# Altium schematic symbol library Ahristi_Library.SchLib: 438 symbols (part 2 of 5)
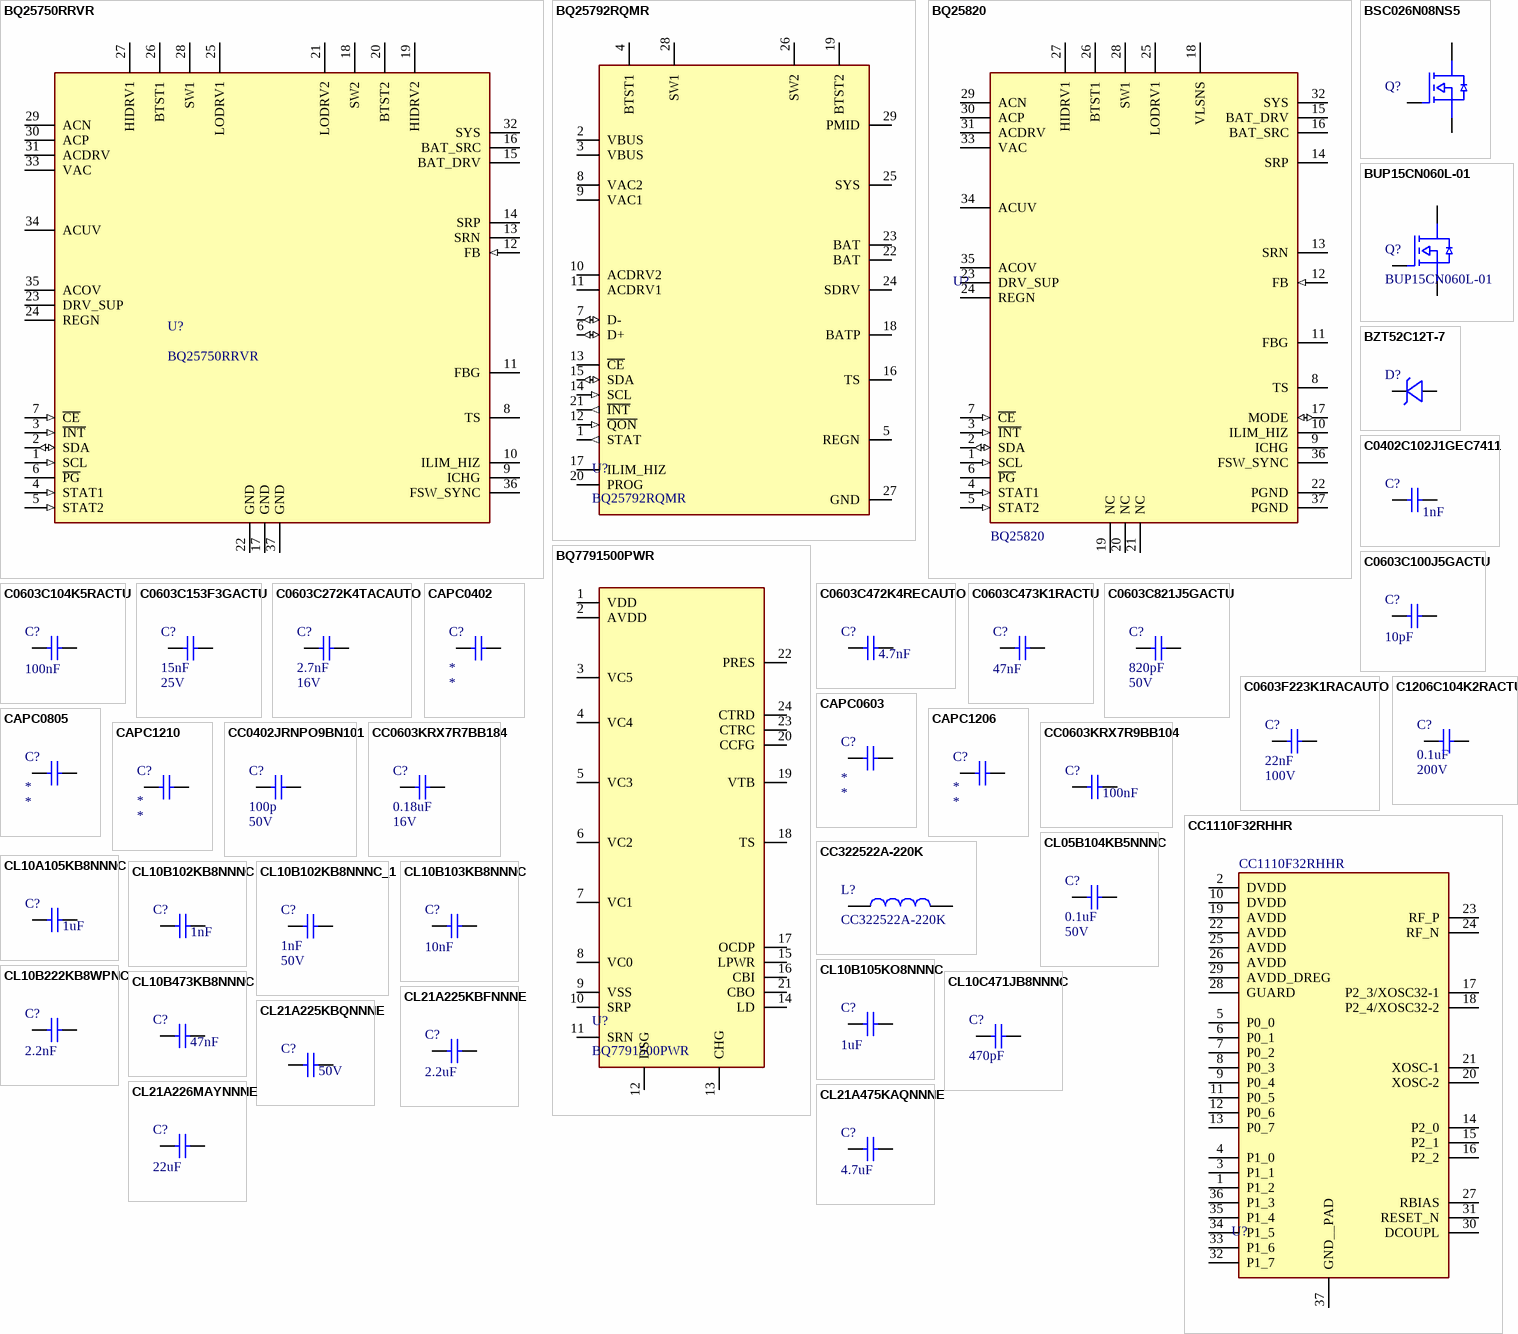
[diagram p13: symbols BQ25750RRVR to CL21A475KAQNNNE]

## C0603C272K4TACAUTO
designator C?  Voltage Rating: 16V  Capacitance: 2.7nF  (hidden comment: C0603C272K4TACAUTO)
2.7nF ±10% 16V Ceramic Capacitor X8G 0603 (1608 Metric); Part Number: C0603C272K4TACAUTO; Tolerance: 10%; Distributor Part number: 399-C0603C272K4TACAUTOTR-ND; Case Code: 0603; Distributor: Digikey; Dielectric: X8G
footprint CAPC0603X040 (Chip Capacitor, 2-Leads, Body 1.60x0.80mm, IPC Medium Density)
footprint CAPC0603X060 (Chip Capacitor, 2-Leads, Body 1.60x0.80mm, IPC Medium Density)
footprint CAPC0603X070 (Chip Capacitor, 2-Leads, Body 1.60x0.80mm, IPC Medium Density)
footprint CAPC0603X080 (Chip Capacitor, 2-Leads, Body 1.60x0.80mm, IPC Medium Density)
footprint CAPC0603X090 (Chip Capacitor, 2-Leads, Body 1.60x0.80mm, IPC Medium Density)
pins: 1, 2

## C0603C472K4RECAUTO
designator C?  Capacitance: 4.7nF  (hidden comment: C0603C472K4RECAUTO)
4.7nF ±10% 16V Ceramic Capacitor X7R 0603 (1608 Metric); Part Number: C0603C472K4RECAUTO; Tolerance: 10%; Distributor Part number: 399-17879-1-ND; Case Code: 0603; Distributor: Digikey; Dielectric: X7R; Voltage Rating: 16V
footprint CAPC0603X040 (Chip Capacitor, 2-Leads, Body 1.60x0.80mm, IPC Medium Density)
footprint CAPC0603X060 (Chip Capacitor, 2-Leads, Body 1.60x0.80mm, IPC Medium Density)
footprint CAPC0603X070 (Chip Capacitor, 2-Leads, Body 1.60x0.80mm, IPC Medium Density)
footprint CAPC0603X080 (Chip Capacitor, 2-Leads, Body 1.60x0.80mm, IPC Medium Density)
footprint CAPC0603X090 (Chip Capacitor, 2-Leads, Body 1.60x0.80mm, IPC Medium Density)
pins: 1, 2

## C0603C473K1RACTU
designator C?  Capacitance: 47nF  (hidden comment: C0603C473K1RACTU)
0.047 µF ±10% 100V Ceramic Capacitor X7R 0603 (1608 Metric); Part Number: C0603C473K1RACTU; Distributor Part Number: 399-C0603C473K1RACTUCT-ND; Tolerance: 10%; Case Code: 0603; Distributor: Digikey; Voltage Rating: 100V
footprint CAPC0603X040 (Chip Capacitor, 2-Leads, Body 1.60x0.80mm, IPC Medium Density)
pins: 1, 2

## C0603C821J5GACTU
designator C?  Voltage Rating: 50V  Capacitance: 820pF  (hidden comment: C0603C821J5GACTU)
820 pF ±5% 50V Ceramic Capacitor C0G, NP0 0603 (1608 Metric); Part Number: C0603C821J5GACTU; Tolerance: 5%; Distributor Part number: 399-C0603C821J5GACTUCT-ND; Case Code: 0603; Distributor: Digikey; Dielectric: C0G
footprint CAPC0603X040 (Chip Capacitor, 2-Leads, Body 1.60x0.80mm, IPC Medium Density)
footprint CAPC0603X060 (Chip Capacitor, 2-Leads, Body 1.60x0.80mm, IPC Medium Density)
footprint CAPC0603X070 (Chip Capacitor, 2-Leads, Body 1.60x0.80mm, IPC Medium Density)
footprint CAPC0603X080 (Chip Capacitor, 2-Leads, Body 1.60x0.80mm, IPC Medium Density)
footprint CAPC0603X090 (Chip Capacitor, 2-Leads, Body 1.60x0.80mm, IPC Medium Density)
pins: 1, 2

## C0603F223K1RACAUTO
designator C?  Voltage Rating: 100V  Capacitance: 22nF  (hidden comment: C0603F223K1RACAUTO)
0.022 µF ±10% 100V Ceramic Capacitor X7R 0603 (1608 Metric); Part Number: C0603F223K1RACAUTO; Tolerance: 10%; Distributor Part number: 399-C0603F223K1RACAUTOCT-ND; Case Code: 0603; Distributor: Digikey; Dielectric: X7R
footprint CAPC0603X040 (Chip Capacitor, 2-Leads, Body 1.60x0.80mm, IPC Medium Density)
footprint CAPC0603X060 (Chip Capacitor, 2-Leads, Body 1.60x0.80mm, IPC Medium Density)
footprint CAPC0603X070 (Chip Capacitor, 2-Leads, Body 1.60x0.80mm, IPC Medium Density)
footprint CAPC0603X080 (Chip Capacitor, 2-Leads, Body 1.60x0.80mm, IPC Medium Density)
footprint CAPC0603X090 (Chip Capacitor, 2-Leads, Body 1.60x0.80mm, IPC Medium Density)
pins: 1, 2

## C1206C104K2RACTU
designator C?  Voltage Rating: 200V  Capacitance: 0.1uF  (hidden comment: C1206C104K2RACTU)
0.1 µF ±10% 200V Ceramic Capacitor X7R 1206 (3216 Metric); Part Number: C1206C104K2RACTU; Distributor Part Number: 399-C1206C104K2RACTUCT-ND; Tolerance: 10%; Case Code: 1206; Distributor: Digikey
footprint CAPC1206X060 (Chip Capacitor, 2-Leads, Body 3.2x1.60mm, IPC Medium Density)
footprint CAPC1206X085
footprint CAPC1206X090 (Chip Capacitor, 2-Leads, Body 3.2x1.60mm, IPC Medium Density)
footprint CAPC1206X115
footprint CAPC1206X120
footprint CAPC1206X145 (Chip Capacitor, 2-Leads, Body 3.2x1.60mm, IPC Medium Density)
footprint CAPC1206X150 (Chip Capacitor, 2-Leads, Body 3.2x1.60mm, IPC Medium Density)
footprint CAPC1206X170
pins: 1, 2

## CAPC0402
designator C?
Part Number: *; Tolerance: *; Distributor Part Number: *; Case Code: 0402; Distributor: *; Manufacturer: *; Dielectric: *; Voltage Rating: *; Capacitance: *
footprint CAPC0402X020 (Chip Capacitor, 2-Leads, Body 1.00x0.50mm, IPC Medium Density)
footprint CAPC0402X045
pins: 1, 2

## CAPC0603
designator C?
Part Number: *; Tolerance: *; Distributor Part number: *; Case Code: 0603; Distributor: *; Voltage Rating: *; Capacitance: *
footprint CAPC0603X040 (Chip Capacitor, 2-Leads, Body 1.60x0.80mm, IPC Medium Density)
footprint CAPC0603X060 (Chip Capacitor, 2-Leads, Body 1.60x0.80mm, IPC Medium Density)
footprint CAPC0603X070 (Chip Capacitor, 2-Leads, Body 1.60x0.80mm, IPC Medium Density)
footprint CAPC0603X080 (Chip Capacitor, 2-Leads, Body 1.60x0.80mm, IPC Medium Density)
footprint CAPC0603X090 (Chip Capacitor, 2-Leads, Body 1.60x0.80mm, IPC Medium Density)
pins: 1, 2

## CAPC0805
designator C?
Part Number: *; Distributor Part Number: *; Tolerance: *; Case Code: 0805; Distributor: *; Voltage Rating: *; Capacitance: *
footprint CAPC0805X060 (Chip Capacitor, 2-Leads, Body 1.00x0.50mm, IPC Medium Density)
footprint CAPC0805X085 (Chip Resistor, 2-Leads, Body 2.00x1.25mm, IPC Medium Density)
footprint CAPC0805X125 (Chip Resistor, 2-Leads, Body 2.00x1.25mm, IPC Medium Density)
footprint CAPC0805X135 (Chip Capacitor, 2-Leads, Body 1.00x0.50mm, IPC Medium Density)
pins: 1, 2

## CAPC1206
designator C?
Part Number: *; Distributor Part Number: *; Tolerance: *; Case Code: 1206; Distributor: *; Voltage Rating: *; Capacitance: *
footprint CAPC1206X060 (Chip Capacitor, 2-Leads, Body 3.2x1.60mm, IPC Medium Density)
footprint CAPC1206X085
footprint CAPC1206X090 (Chip Capacitor, 2-Leads, Body 3.2x1.60mm, IPC Medium Density)
footprint CAPC1206X115
footprint CAPC1206X120
footprint CAPC1206X145 (Chip Capacitor, 2-Leads, Body 3.2x1.60mm, IPC Medium Density)
footprint CAPC1206X150 (Chip Capacitor, 2-Leads, Body 3.2x1.60mm, IPC Medium Density)
footprint CAPC1206X170
pins: 1, 2

## CAPC1210
designator C?
Part Number: *; Distributor Part Number: *; Tolerance: *; Case Code: 1210; Distributor: *; Voltage Rating: *; Capacitance: *
footprint CAPC1210X090 (1210 Ceramic Capacitor)
footprint CAPC1210X115 (1210 Ceramic Capacitor)
footprint CAPC1210X140 (1210 Ceramic Capacitor)
footprint CAPC1210X170 (1210 Ceramic Capacitor)
footprint CAPC1210X190 (1210 Ceramic Capacitor)
pins: 1, 2

## CC0402JRNPO9BN101
designator C?  Voltage Rating: 50V  Capacitance: 100p  (hidden comment: CC0402JRNPO9BN101)
100 pF ±5% 50V Ceramic Capacitor C0G, NP0 0402 (1005 Metric); Part Number: CC0402JRNPO9BN101; Tolerance: 5%; Distributor Part Number: 311-1024-1-ND; Case Code: 0402; Distributor: Digikey; Manufacturer: *; Dielectric: C0G
footprint CAPC0402X020 (Chip Capacitor, 2-Leads, Body 1.00x0.50mm, IPC Medium Density)
footprint CAPC0402X045
pins: 1, 2

## CC0603KRX7R7BB184
designator C?  Voltage Rating: 16V  Capacitance: 0.18uF  (hidden comment: CC0603KRX7R7BB184)
0.18 µF ±10% 16V Ceramic Capacitor X7R 0603 (1608 Metric); Part Number: CC0603KRX7R7BB184; Tolerance: 10%; Distributor Part number: 311-4066-1-ND; Case Code: 0603; Distributor: Digikey; Dielectric: X7R
footprint CAPC0603X040 (Chip Capacitor, 2-Leads, Body 1.60x0.80mm, IPC Medium Density)
footprint CAPC0603X060 (Chip Capacitor, 2-Leads, Body 1.60x0.80mm, IPC Medium Density)
footprint CAPC0603X070 (Chip Capacitor, 2-Leads, Body 1.60x0.80mm, IPC Medium Density)
footprint CAPC0603X080 (Chip Capacitor, 2-Leads, Body 1.60x0.80mm, IPC Medium Density)
footprint CAPC0603X090 (Chip Capacitor, 2-Leads, Body 1.60x0.80mm, IPC Medium Density)
pins: 1, 2

## CC0603KRX7R9BB104
designator C?  Capacitance: 100nF  (hidden comment: CC0603KRX7R9BB104)
100nF 50V X7R ±10% 0603 Multilayer Ceramic Capacitors MLCC - SMD/SMT ROHS; Part Number: CC0603KRX7R9BB104; Tolerance: 10%; Distributor Part number: C14663; Case Code: 0603; Distributor: JLCPCB; Dielectric: X7R; Voltage Rating: 50V
footprint CAPC0603X040 (Chip Capacitor, 2-Leads, Body 1.60x0.80mm, IPC Medium Density)
footprint CAPC0603X060 (Chip Capacitor, 2-Leads, Body 1.60x0.80mm, IPC Medium Density)
footprint CAPC0603X070 (Chip Capacitor, 2-Leads, Body 1.60x0.80mm, IPC Medium Density)
footprint CAPC0603X080 (Chip Capacitor, 2-Leads, Body 1.60x0.80mm, IPC Medium Density)
footprint CAPC0603X090 (Chip Capacitor, 2-Leads, Body 1.60x0.80mm, IPC Medium Density)
pins: 1, 2

## CC1110F32RHHR
designator U?  Part Number: CC1110F32RHHR
IC RF TXRx + MCU General ISM < 1GHz 36-VFQFN Exposed Pad; Modulation: 2FSK, ASK, GFSK, MSK, OOK; Frequency: 300MHz ~ 348MHz, 391MHz ~ 464MHz, 782MHz ~ 928MHz; Data Rate (Max): 500kBaud; Power Output: 10dBm; Sensitivity: -112dBm; Memory Size: 32kB Flash, 4kB SRAM; Serial Interface: I2S, USART; GPIO: 21; Supply Voltage: 2V ~3.6V; Current - Receiving: 16.2mA ~ 21.5mA; Current - Transmitting: 18mA ~ 36.2mA; Operating Temperature: -40C ~ 85C; ComponentLink1Description: Datasheet; ComponentLink1URL: https://www.ti.com/lit/ds/symlink/cc1110-cc1111.pdf?ts=1755677728805&ref_url=https%253A%252F%252Fwww.ti.com%252Fproduct%252FCC1110-CC1111
footprint CC1110F32RHHR (IC RF TXRX+MCU ISM<1GHZ 36VQFN)
pins: 1 P1_2, 2 DVDD, 3 P1_1, 4 P1_0, 5 P0_0, 6 P0_1, 7 P0_2, 8 P0_3, 9 P0_4, 10 DVDD, 11 P0_5, 12 P0_6, 13 P0_7, 14 P2_0, 15 P2_1, 16 P2_2, 17 P2_3/XOSC32-1, 18 P2_4/XOSC32-2, 19 AVDD, 20 XOSC-2, 21 XOSC-1, 22 AVDD, 23 RF_P, 24 RF_N, 25 AVDD, 26 AVDD, 27 RBIAS, 28 GUARD, 29 AVDD_DREG, 30 DCOUPL, 31 RESET_N, 32 P1_7, 33 P1_6, 34 P1_5, 35 P1_4, 36 P1_3, 37 GND__PAD

## CC322522A-220K
designator L?
Inductor 22uH 10% 370mA 2.2Ohm 20MHz 2.5mmx2.2mmx3.2mm; Saturation Current: 300mA; Maximum DC Resistance: 2Ohm; Part Number: CC322522A-220K; Inductance: 22uH; Tolerance: 10%; Maximum DC Current: 370mA; Operating Temperature: -40C ~ 150C
footprint CC322522A-220K (3.2mm x 2.5mm Inductor)
pins: 1, 2

## CL05B104KB5NNNC
designator C?  Voltage Rating: 50V  Capacitance: 0.1uF  (hidden comment: CL05B104KB5NNNC)
0.1 µF ±10% 50V Ceramic Capacitor X7R 0402 (1005 Metric); Part Number: CL05B104KB5NNNC; Tolerance: 10%; Distributor Part Number: 1276-CL05B104KB5NNNCCT-ND; Case Code: 0402; Distributor: Digikey
footprint CAPC0402X020 (Chip Capacitor, 2-Leads, Body 1.00x0.50mm, IPC Medium Density)
footprint CAPC0402X045
simulation model C_Capacitor_Default (Model Description)
pins: 1, 2

## CL10A105KB8NNNC
designator C?  Capacitance: 1uF  (hidden comment: CL10A105KB8NNNC)
1uF 50V X5R ±10% 0603 Multilayer Ceramic Capacitors MLCC - SMD/SMT ROHS; Part Number: CL10A105KB8NNNC; Tolerance: 10%; Distributor Part number: C15849; Case Code: 0603; Distributor: JLCPCB; Dielectric: X5R; Voltage Rating: 50V
footprint CAPC0603X040 (Chip Capacitor, 2-Leads, Body 1.60x0.80mm, IPC Medium Density)
footprint CAPC0603X060 (Chip Capacitor, 2-Leads, Body 1.60x0.80mm, IPC Medium Density)
footprint CAPC0603X070 (Chip Capacitor, 2-Leads, Body 1.60x0.80mm, IPC Medium Density)
footprint CAPC0603X080 (Chip Capacitor, 2-Leads, Body 1.60x0.80mm, IPC Medium Density)
footprint CAPC0603X090 (Chip Capacitor, 2-Leads, Body 1.60x0.80mm, IPC Medium Density)
pins: 1, 2

## CL10B102KB8NNNC
designator C?  Capacitance: 1nF  (hidden comment: CL10B102KB8NNNC)
1nF 50V X7R ±10% 0603 Multilayer Ceramic Capacitors MLCC - SMD/SMT ROHS; Part Number: CL10B102KB8NNNC; Tolerance: 10%; Distributor Part number: C1588; Case Code: 0603; Distributor: JLCPCB; Dielectric: X7R; Voltage Rating: 50V
footprint CAPC0603X040 (Chip Capacitor, 2-Leads, Body 1.60x0.80mm, IPC Medium Density)
footprint CAPC0603X060 (Chip Capacitor, 2-Leads, Body 1.60x0.80mm, IPC Medium Density)
footprint CAPC0603X070 (Chip Capacitor, 2-Leads, Body 1.60x0.80mm, IPC Medium Density)
footprint CAPC0603X080 (Chip Capacitor, 2-Leads, Body 1.60x0.80mm, IPC Medium Density)
footprint CAPC0603X090 (Chip Capacitor, 2-Leads, Body 1.60x0.80mm, IPC Medium Density)
pins: 1, 2

## CL10B102KB8NNNC_1
designator C?, comment Voltage Rating: 50V  Capacitance: 1nF  (hidden comment: CL10B102KB8NNNC)
1nF 50V X7R ±10% 0603 Multilayer Ceramic Capacitors MLCC - SMD/SMT ROHS; Part Number: CL10B102KB8NNNC; Tolerance: 10%; Distributor Part number: 1276-1018-1-ND; Case Code: 0603; Distributor: Digikey; Dielectric: X7R
footprint CAPC0603X040 (Chip Capacitor, 2-Leads, Body 1.60x0.80mm, IPC Medium Density)
footprint CAPC0603X060 (Chip Capacitor, 2-Leads, Body 1.60x0.80mm, IPC Medium Density)
footprint CAPC0603X070 (Chip Capacitor, 2-Leads, Body 1.60x0.80mm, IPC Medium Density)
footprint CAPC0603X080 (Chip Capacitor, 2-Leads, Body 1.60x0.80mm, IPC Medium Density)
footprint CAPC0603X090 (Chip Capacitor, 2-Leads, Body 1.60x0.80mm, IPC Medium Density)
pins: 1, 2

## CL10B103KB8NNNC
designator C?  Capacitance: 10nF  (hidden comment: CL10B103KB8NNNC)
10nF ±10% 50V Ceramic Capacitor X7R 0603 (1608 Metric); Part Number: CL10B103KB8NNNC; Distributor Part Number: 1276-1009-1-ND; Tolerance: 10%; Case Code: 0603; Distributor: Digikey; Voltage Rating: 50V
footprint CAPC0603X060 (Chip Capacitor, 2-Leads, Body 1.60x0.80mm, IPC Medium Density)
simulation model C_Capacitor_Default (Model Description)
pins: 1, 2

## CL10B105KO8NNNC
designator C?  Capacitance: 1uF  (hidden comment: CL10B105KO8NNNC)
1 µF ±10% 16V Ceramic Capacitor X7R 0603 (1608 Metric); Part Number: CL10B105KO8NNNC; Distributor Part Number: 1276-1019-1-ND; Tolerance: 10%; Case Code: 0603; Distributor: Digikey; Voltage Rating: 16V
footprint CAPC0603X060 (Chip Capacitor, 2-Leads, Body 1.60x0.80mm, IPC Medium Density)
pins: 1, 2

## CL10B222KB8WPNC
designator C?  Capacitance: 2.2nF  (hidden comment: CL10B222KB8WPNC)
2.2nF ±10% 50V Ceramic Capacitor X7R 0603 (1608 Metric); Part Number: CL10B222KB8WPNC; Distributor Part Number: 1276-6530-1-ND; Tolerance: 10%; Case Code: 0805; Distributor: Digikey; Voltage Rating: 50V
footprint CAPC0603X060 (Chip Capacitor, 2-Leads, Body 1.60x0.80mm, IPC Medium Density)
simulation model C_Capacitor_Default (Model Description)
pins: 1, 2

## CL10B473KB8NNNC
designator C?  Capacitance: 47nF  (hidden comment: CL10B473KB8NNNC)
47nF 50V X7R ±10% 0603 Multilayer Ceramic Capacitors MLCC - SMD/SMT ROHS; Part Number: CL10B473KB8NNNC; Tolerance: 10%; Distributor Part number: C1622; Case Code: 0603; Distributor: JLCPCB; Dielectric: X7R; Voltage Rating: 50V
footprint CAPC0603X040 (Chip Capacitor, 2-Leads, Body 1.60x0.80mm, IPC Medium Density)
footprint CAPC0603X060 (Chip Capacitor, 2-Leads, Body 1.60x0.80mm, IPC Medium Density)
footprint CAPC0603X070 (Chip Capacitor, 2-Leads, Body 1.60x0.80mm, IPC Medium Density)
footprint CAPC0603X080 (Chip Capacitor, 2-Leads, Body 1.60x0.80mm, IPC Medium Density)
footprint CAPC0603X090 (Chip Capacitor, 2-Leads, Body 1.60x0.80mm, IPC Medium Density)
pins: 1, 2

## CL10C471JB8NNNC
designator C?  Capacitance: 470pF  (hidden comment: CL10C471JB8NNNC)
470 pF ±5% 50V Ceramic Capacitor C0G, NP0 0603 (1608 Metric); Part Number: CL10C471JB8NNNC; Tolerance: 5%; Distributor Part number: 1276-1168-1-ND; Case Code: 0603; Distributor: Digikey; Dielectric: C0G; Voltage Rating: 50V
footprint CAPC0603X040 (Chip Capacitor, 2-Leads, Body 1.60x0.80mm, IPC Medium Density)
footprint CAPC0603X060 (Chip Capacitor, 2-Leads, Body 1.60x0.80mm, IPC Medium Density)
footprint CAPC0603X070 (Chip Capacitor, 2-Leads, Body 1.60x0.80mm, IPC Medium Density)
footprint CAPC0603X080 (Chip Capacitor, 2-Leads, Body 1.60x0.80mm, IPC Medium Density)
footprint CAPC0603X090 (Chip Capacitor, 2-Leads, Body 1.60x0.80mm, IPC Medium Density)
pins: 1, 2

## CL21A225KBFNNNE
designator C?  Capacitance: 2.2uF  (hidden comment: CL21A225KBFNNNE)
2.2uF ±10% 25V Ceramic Capacitor X7R 0805 (2012 Metric); Part Number: CL21A225KBFNNNE; Distributor Part Number: 1276-6702-1-ND; Tolerance: 10%; Case Code: 0805; Distributor: Digikey; Voltage Rating: 25V
footprint CAPC0805X060 (Chip Capacitor, 2-Leads, Body 1.00x0.50mm, IPC Medium Density)
footprint CAPC0805X085 (Chip Resistor, 2-Leads, Body 2.00x1.25mm, IPC Medium Density)
footprint CAPC0805X125 (Chip Resistor, 2-Leads, Body 2.00x1.25mm, IPC Medium Density)
footprint CAPC0805X135 (Chip Capacitor, 2-Leads, Body 1.00x0.50mm, IPC Medium Density)
simulation model C_Capacitor_Default (Model Description)
pins: 1, 2

## CL21A225KBQNNNE
designator C?  Voltage Rating: 50V  (hidden comment: CL21A225KBQNNNE)
2.2uF 50V X5R ±10% 0805 Multilayer Ceramic Capacitors MLCC - SMD/SMT ROHS; Part Number: CL21A225KBQNNNE; Distributor Part Number: C377773; Tolerance: 10%; Case Code: 0805; Distributor: JLCPCB; Capacitance: 2.2uF; Dielectric: X5R
footprint CAPC0805X060 (Chip Capacitor, 2-Leads, Body 1.00x0.50mm, IPC Medium Density)
footprint CAPC0805X085 (Chip Resistor, 2-Leads, Body 2.00x1.25mm, IPC Medium Density)
footprint CAPC0805X125 (Chip Resistor, 2-Leads, Body 2.00x1.25mm, IPC Medium Density)
footprint CAPC0805X135 (Chip Capacitor, 2-Leads, Body 1.00x0.50mm, IPC Medium Density)
pins: 1, 2

## CL21A226MAYNNNE
designator C?  Capacitance: 22uF  (hidden comment: CL21A226MAYNNNE)
22 µF ±20% 25V Ceramic Capacitor X5R 0805 (2012 Metric); Tolerance: 10%; Part Number: CL21A226MAYNNNE; Distributor Part Number: 1276-CL21A226MAYNNNECT-ND; Case Code: 0805; Distributor: Digikey; Voltage Rating: 25V
footprint CAPC0805X060 (Chip Capacitor, 2-Leads, Body 1.00x0.50mm, IPC Medium Density)
footprint CAPC0805X085 (Chip Resistor, 2-Leads, Body 2.00x1.25mm, IPC Medium Density)
footprint CAPC0805X125 (Chip Resistor, 2-Leads, Body 2.00x1.25mm, IPC Medium Density)
footprint CAPC0805X135 (Chip Capacitor, 2-Leads, Body 1.00x0.50mm, IPC Medium Density)
pins: 1, 2

## CL21A475KAQNNNE
designator C?  Capacitance: 4.7uF  (hidden comment: CL21A475KAQNNNE)
4.7 µF ±10% 25V Ceramic Capacitor X5R 0805 (2012 Metric); Part Number: CL21A475KAQNNNE; Distributor Part Number: 1276-1244-1-ND; Tolerance: 10%; Case Code: 0805; Distributor: Digikey; Voltage Rating: 25V
footprint CAPC0805X060 (Chip Capacitor, 2-Leads, Body 1.00x0.50mm, IPC Medium Density)
footprint CAPC0805X085 (Chip Resistor, 2-Leads, Body 2.00x1.25mm, IPC Medium Density)
footprint CAPC0805X125 (Chip Resistor, 2-Leads, Body 2.00x1.25mm, IPC Medium Density)
footprint CAPC0805X135 (Chip Capacitor, 2-Leads, Body 1.00x0.50mm, IPC Medium Density)
simulation model C_Capacitor_Default (Model Description)
pins: 1, 2

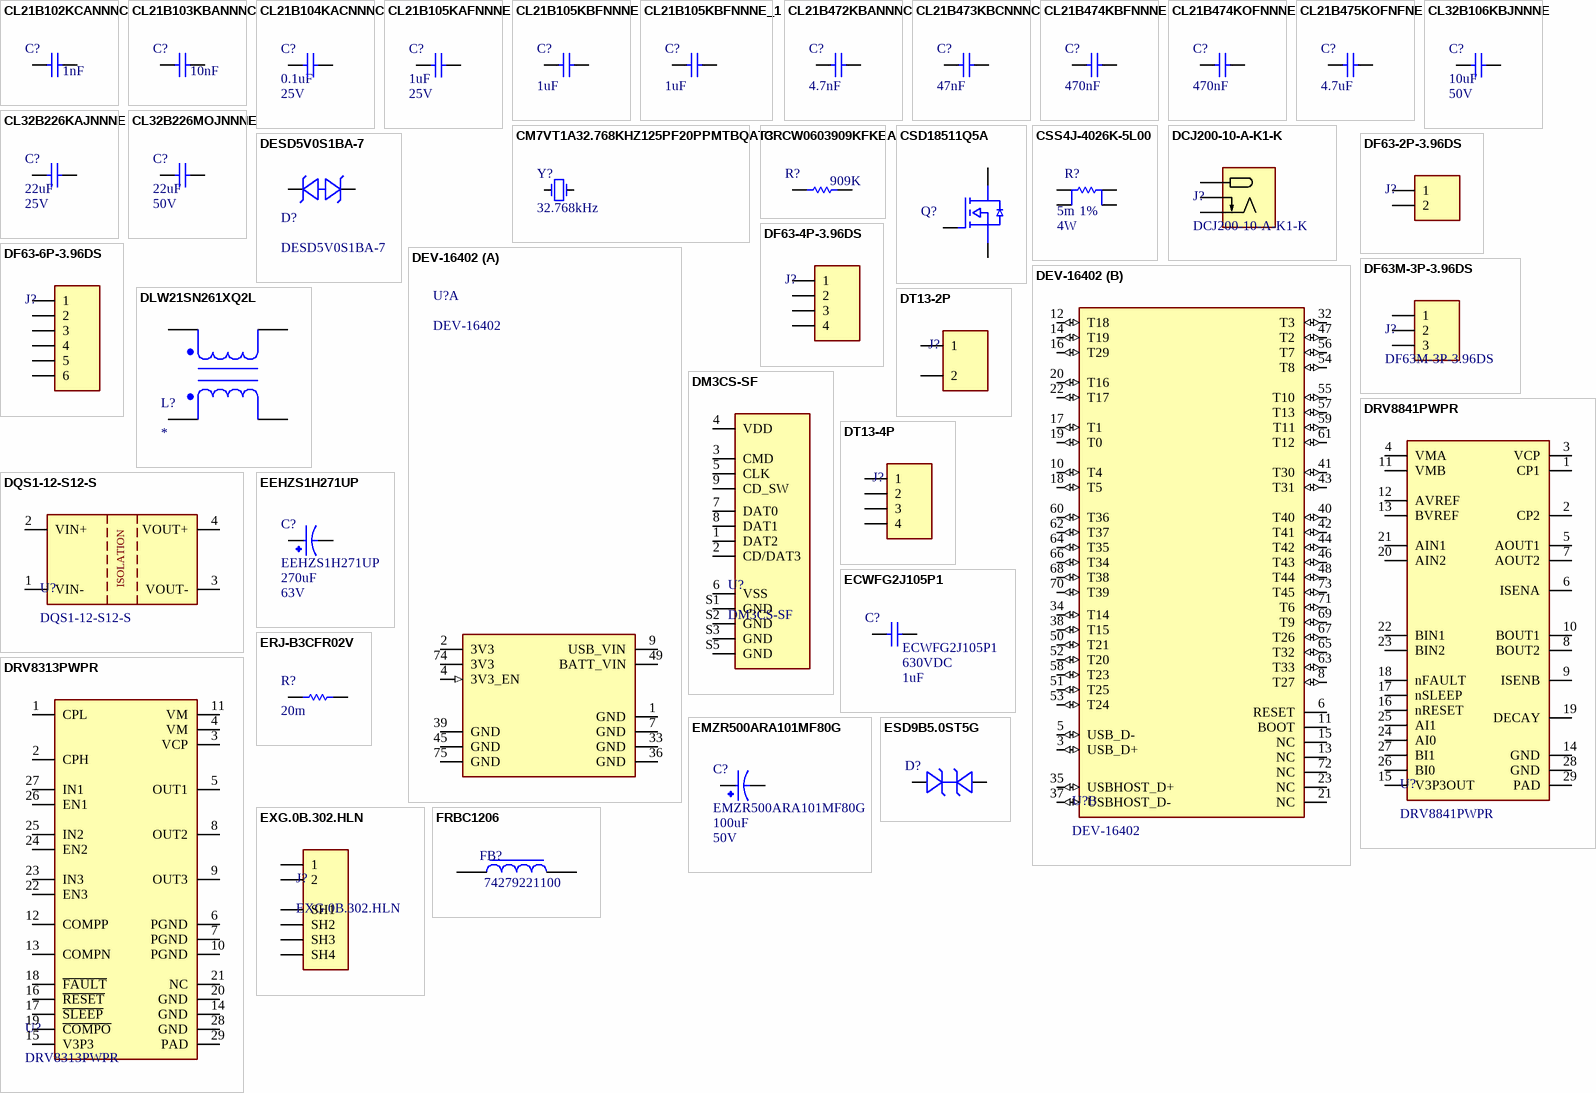
[diagram p4: symbols CL21B102KCANNNC to FRBC1206]

## CL21B102KCANNNC
designator C?  Capacitance: 1nF  (hidden comment: CL21B102KCANNNC)
1000 pF ±10% 100V Ceramic Capacitor X7R 0805 (2012 Metric); Voltage Rating: 25V; Part Number: CL21B102KCANNNC; Distributor Part Number: 1276-1169-1-ND; Tolerance: 10%; Case Code: 0805; Distributor: Digikey
footprint CAPC0805X060 (Chip Capacitor, 2-Leads, Body 1.00x0.50mm, IPC Medium Density)
footprint CAPC0805X085 (Chip Resistor, 2-Leads, Body 2.00x1.25mm, IPC Medium Density)
footprint CAPC0805X125 (Chip Resistor, 2-Leads, Body 2.00x1.25mm, IPC Medium Density)
footprint CAPC0805X135 (Chip Capacitor, 2-Leads, Body 1.00x0.50mm, IPC Medium Density)
pins: 1, 2

## CL21B103KBANNNC
designator C?  Capacitance: 10nF  (hidden comment: CL21B103KBANNNC)
10nF ±10% 50V Ceramic Capacitor X7R 0805 (2012 Metric); Voltage Rating: 25V; Part Number: CL21B103KBANNNC; Distributor Part Number: 1276-1015-1-ND; Tolerance: 10%; Case Code: 0805; Distributor: Digikey
footprint CAPC0805X060 (Chip Capacitor, 2-Leads, Body 1.00x0.50mm, IPC Medium Density)
footprint CAPC0805X085 (Chip Resistor, 2-Leads, Body 2.00x1.25mm, IPC Medium Density)
footprint CAPC0805X125 (Chip Resistor, 2-Leads, Body 2.00x1.25mm, IPC Medium Density)
footprint CAPC0805X135 (Chip Capacitor, 2-Leads, Body 1.00x0.50mm, IPC Medium Density)
pins: 1, 2

## CL21B104KACNNNC
designator C?  Voltage Rating: 25V  Capacitance: 0.1uF  (hidden comment: CL21B104KACNNNC)
0.1uF ±10% 25V Ceramic Capacitor X7R 0805 (2012 Metric); Part Number: CL21B104KACNNNC; Distributor Part Number: 1276-1099-1-ND; Tolerance: 10%; Case Code: 0805; Distributor: Digikey
footprint CAPC0805X060 (Chip Capacitor, 2-Leads, Body 1.00x0.50mm, IPC Medium Density)
footprint CAPC0805X085 (Chip Resistor, 2-Leads, Body 2.00x1.25mm, IPC Medium Density)
footprint CAPC0805X125 (Chip Resistor, 2-Leads, Body 2.00x1.25mm, IPC Medium Density)
footprint CAPC0805X135 (Chip Capacitor, 2-Leads, Body 1.00x0.50mm, IPC Medium Density)
pins: 1, 2

## CL21B105KAFNNNE
designator C?  Voltage Rating: 25V  Capacitance: 1uF  (hidden comment: CL21B105KAFNNNE)
1uF ±10% 25V Ceramic Capacitor X7R 0805 (2012 Metric); Part Number: CL21B105KAFNNNE; Distributor Part Number: 1276-1066-1-ND; Tolerance: 10%; Case Code: 0805; Distributor: Digikey
footprint CAPC0805X060 (Chip Capacitor, 2-Leads, Body 1.00x0.50mm, IPC Medium Density)
footprint CAPC0805X085 (Chip Resistor, 2-Leads, Body 2.00x1.25mm, IPC Medium Density)
footprint CAPC0805X125 (Chip Resistor, 2-Leads, Body 2.00x1.25mm, IPC Medium Density)
footprint CAPC0805X135 (Chip Capacitor, 2-Leads, Body 1.00x0.50mm, IPC Medium Density)
pins: 1, 2

## CL21B105KBFNNNE
designator C?  Capacitance: 1uF  (hidden comment: CL21B105KBFNNNE)
1uF ±10% 50V Ceramic Capacitor X7R 0805 (2012 Metric); Part Number: CL21B105KBFNNNE; Distributor Part Number: C28323; Tolerance: 10%; Case Code: 0805; Distributor: JLCPCB; Voltage Rating: 50V
footprint CAPC0805X060 (Chip Capacitor, 2-Leads, Body 1.00x0.50mm, IPC Medium Density)
footprint CAPC0805X085 (Chip Resistor, 2-Leads, Body 2.00x1.25mm, IPC Medium Density)
footprint CAPC0805X125 (Chip Resistor, 2-Leads, Body 2.00x1.25mm, IPC Medium Density)
footprint CAPC0805X135 (Chip Capacitor, 2-Leads, Body 1.00x0.50mm, IPC Medium Density)
simulation model C_Capacitor_Default (Model Description)
pins: 1, 2

## CL21B105KBFNNNE_1
designator C?, comment Capacitance: 1uF  (hidden comment: CL21B105KBFNNNE)
1uF 50V X7R ±10% 0805 Multilayer Ceramic Capacitors MLCC - SMD/SMT ROHS; Part Number: CL21B105KBFNNNE; Distributor Part Number: 1276-1029-1-ND; Tolerance: 10%; Case Code: 0805; Distributor: Digikey; Voltage Rating: 50V
footprint CAPC0805X060 (Chip Capacitor, 2-Leads, Body 1.00x0.50mm, IPC Medium Density)
footprint CAPC0805X085 (Chip Resistor, 2-Leads, Body 2.00x1.25mm, IPC Medium Density)
footprint CAPC0805X125 (Chip Resistor, 2-Leads, Body 2.00x1.25mm, IPC Medium Density)
footprint CAPC0805X135 (Chip Capacitor, 2-Leads, Body 1.00x0.50mm, IPC Medium Density)
pins: 1, 2

## CL21B472KBANNNC
designator C?, comment Capacitance: 4.7nF  (hidden comment: CL21B105KAFNNNE)
4.7nF ±10% 50V Ceramic Capacitor X7R 0805 (2012 Metric); Part Number: CL21B472KBANNNC; Voltage Rating: 25V; Distributor Part Number: 1276-1155-1-ND; Tolerance: 10%; Case Code: 0805; Distributor: Digikey
footprint CAPC0805X060 (Chip Capacitor, 2-Leads, Body 1.00x0.50mm, IPC Medium Density)
footprint CAPC0805X085 (Chip Resistor, 2-Leads, Body 2.00x1.25mm, IPC Medium Density)
footprint CAPC0805X125 (Chip Resistor, 2-Leads, Body 2.00x1.25mm, IPC Medium Density)
footprint CAPC0805X135 (Chip Capacitor, 2-Leads, Body 1.00x0.50mm, IPC Medium Density)
pins: 1, 2

## CL21B473KBCNNNC
designator C?  Capacitance: 47nF  (hidden comment: CL21B473KBCNNNC)
0.047 µF ±10% 50V Ceramic Capacitor X7R 0805 (2012 Metric); Voltage Rating: 25V; Part Number: CL21B473KBCNNNC; Distributor Part Number: 1276-1250-1-ND; Tolerance: 10%; Case Code: 0805; Distributor: Digikey
footprint CAPC0805X060 (Chip Capacitor, 2-Leads, Body 1.00x0.50mm, IPC Medium Density)
footprint CAPC0805X085 (Chip Resistor, 2-Leads, Body 2.00x1.25mm, IPC Medium Density)
footprint CAPC0805X125 (Chip Resistor, 2-Leads, Body 2.00x1.25mm, IPC Medium Density)
footprint CAPC0805X135 (Chip Capacitor, 2-Leads, Body 1.00x0.50mm, IPC Medium Density)
pins: 1, 2

## CL21B474KBFNNNE
designator C?  Capacitance: 470nF  (hidden comment: CL21B474KBFNNNE)
0.47 µF ±10% 50V Ceramic Capacitor X7R 0805 (2012 Metric); Distributor Part Number: C13967; Tolerance: 10%; Case Code: 0805; Distributor: JLCPCB; Voltage Rating: 50V; Part Number: CL21B474KBFNNNE
footprint CAPC0805X060 (Chip Capacitor, 2-Leads, Body 1.00x0.50mm, IPC Medium Density)
footprint CAPC0805X085 (Chip Resistor, 2-Leads, Body 2.00x1.25mm, IPC Medium Density)
footprint CAPC0805X125 (Chip Resistor, 2-Leads, Body 2.00x1.25mm, IPC Medium Density)
footprint CAPC0805X135 (Chip Capacitor, 2-Leads, Body 1.00x0.50mm, IPC Medium Density)
pins: 1, 2

## CL21B474KOFNNNE
designator C?  Capacitance: 470nF  (hidden comment: CL21B474KOFNNNE)
0.47 µF ±10% 16V Ceramic Capacitor X7R 0805 (2012 Metric); Voltage Rating: 25V; Part Number: CL21B474KOFNNNE; Distributor Part Number: 1276-1199-1-ND; Tolerance: 10%; Case Code: 0805; Distributor: Digikey
footprint CAPC0805X060 (Chip Capacitor, 2-Leads, Body 1.00x0.50mm, IPC Medium Density)
footprint CAPC0805X085 (Chip Resistor, 2-Leads, Body 2.00x1.25mm, IPC Medium Density)
footprint CAPC0805X125 (Chip Resistor, 2-Leads, Body 2.00x1.25mm, IPC Medium Density)
footprint CAPC0805X135 (Chip Capacitor, 2-Leads, Body 1.00x0.50mm, IPC Medium Density)
pins: 1, 2

## CL21B475KOFNFNE
designator C?  Capacitance: 4.7uF  (hidden comment: CL21B475KOFNFNE)
4.7 µF ±10% 16V Ceramic Capacitor X7R 0805 (2012 Metric); Part Number: CL21B475KOFNFNE; Distributor Part Number: 1276-2970-1-ND; Tolerance: 10%; Case Code: 0805; Distributor: Digikey; Voltage Rating: 16V
footprint CAPC0805X060 (Chip Capacitor, 2-Leads, Body 1.00x0.50mm, IPC Medium Density)
footprint CAPC0805X085 (Chip Resistor, 2-Leads, Body 2.00x1.25mm, IPC Medium Density)
footprint CAPC0805X125 (Chip Resistor, 2-Leads, Body 2.00x1.25mm, IPC Medium Density)
footprint CAPC0805X135 (Chip Capacitor, 2-Leads, Body 1.00x0.50mm, IPC Medium Density)
pins: 1, 2

## CL32B106KBJNNNE
designator C?  Voltage Rating: 50V  Capacitance: 10uF  (hidden comment: CL32B106KBJNNNE)
10 µF ±10% 50V Ceramic Capacitor X7R 1210 (3225 Metric); Manufacturer Part Number: CL32B106KBJNNNE; Distributor Part Number: 1276-3387-1-ND; Tolerance: 10%; Case Code: 1210; Distributor: Digikey
footprint CAPC1210X090 (1210 Ceramic Capacitor)
footprint CAPC1210X115 (1210 Ceramic Capacitor)
footprint CAPC1210X140 (1210 Ceramic Capacitor)
footprint CAPC1210X170 (1210 Ceramic Capacitor)
footprint CAPC1210X190 (1210 Ceramic Capacitor)
pins: 1, 2

## CL32B226KAJNNNE
designator C?  Voltage Rating: 25V  Capacitance: 22uF  (hidden comment: CL32B226KAJNNNE)
22 µF ±10% 25V Ceramic Capacitor X7R 1210 (3225 Metric); Part Number: CL32B226KAJNNNE; Distributor Part Number: 1276-3392-1-ND; Tolerance: 10%; Case Code: 1210; Distributor: Digikey
footprint CAPC1210X090 (1210 Ceramic Capacitor)
footprint CAPC1210X115 (1210 Ceramic Capacitor)
footprint CAPC1210X140 (1210 Ceramic Capacitor)
footprint CAPC1210X170 (1210 Ceramic Capacitor)
footprint CAPC1210X190 (1210 Ceramic Capacitor)
pins: 1, 2

## CL32B226MOJNNNE
designator C?  Voltage Rating: 50V  Capacitance: 22uF  (hidden comment: CL32B226MOJNNNE)
22 µF ±20% 16V Ceramic Capacitor X7R 1210 (3225 Metric); Tolerance: 10%; Part Number: CL32B226MOJNNNE; Distributor Part Number: 1276-3395-1-ND; Case Code: 1210; Distributor: Digikey
footprint CAPC1210X090 (1210 Ceramic Capacitor)
footprint CAPC1210X115 (1210 Ceramic Capacitor)
footprint CAPC1210X140 (1210 Ceramic Capacitor)
footprint CAPC1210X170 (1210 Ceramic Capacitor)
footprint CAPC1210X190 (1210 Ceramic Capacitor)
pins: 1, 2

## CM7VT1A32.768KHZ125PF20PPMTBQAT3
designator Y?  Frequency: 32.768kHz  (hidden comment: CM7VT1A32.768KHZ125PF20PPMTBQAT3)
CRYSTAL 32.7680KHZ 12.5PF SMD; Qualification: AEC-Q200; ESR: 70kohm; Part Number: CM7VT1A32.768KHZ125PF20PPMTBQAT3; Distributor Part Number: 2195-CM7VT1A32.768KHZ125PF20PPMTBQAT3CT-ND; Distributor: Digikey; Operating Temperature: -40°C ~ 125°C; Load Capacitance: 12.5pF
footprint CM7VT1A32.768KHZ125PF20PPMTBQAT3 (SMD-2 Crystal)
pins: 1 OSC1, 2 OSC2

## CRCW0603909KFKEA
designator R?  Resistance: 909K  (hidden comment: CRCW0603909KFKEA)
909 kOhms ±1% 0.125W, 1/8W Chip Resistor 0603 (1608 Metric) Automotive AEC-Q200 Thick Film; Part Number: CRCW0603909KFKEA; Tolerance: 1%; Distributor: Digikey; Distributor Part Number: 541-909KHCT-ND; Case Code: 0603
footprint RESC0603 (Chip Resistor, 2-Leads, Body 1.60x0.80mm, IPC Medium Density)
pins: 1, 2

## CSD18511Q5A
designator Q?  (value not drawn)
40-V, N channel NexFET™ power MOSFET, single SON 5 mm x 6 mm, 2.3 mOhm; Vgs (Max): 20; Vds (Max): 40V; Qg: 63nC; Qgd: 11.2nC; Vth: 1.8; Id: 27A; Power Dissipation (Max): 104W; Continuous Drain Current @ 25C: 159A; Part Number: CSD18511Q5A; Distributor Part Number: 296-48119-1-ND; Operating Temperature: -55°C ~ 150°C
footprint CSD18511Q5A (40-V, N channel NexFET™ power MOSFET, single SON 5 mm x 6 mm, 2.3 mOhm)
pins: 1 G, 2 D, 3 S

## CSS4J-4026K-5L00
designator R?  Resistance: 5m  Power Dissipation: 4W  Tolerance: 1%  (hidden comment: *)
5 mOhms ±1% 3W Chip Resistor Nonstandard Automotive AEC-Q200, Current Sense Metal Element; Manufacturer Part Number: CSS4J-4026K-5L00; Distributor Part Number: *
footprint CSS4J-4026K-5L00 (5 mOhms ±1% 3W Chip Resistor Nonstandard Automotive AEC-Q200, Current Sense Metal Element)
pins: I1, I2, S1, S2

## DCJ200-10-A-K1-K
designator J?
Power Barrel Connector Jack 2.05mm ID (0.081"), 5.50mm OD (0.217") Through Hole, Right Angle; Voltage Rating: 20VDC; Current Ratnig: 5A; Part Number: DCJ200-10-A-K1-K; Distributor: Digikey; Distributor Part Number: 2073-DCJ200-10-A-K1-K-ND; Operating Temperature: -20°C ~ 70°C
footprint DCJ200-10-A-K1-K (Power Barrel Connector Jack 2.05mm ID (0.081"), 5.50mm OD (0.217") Through Hole, Right Angle)
pins: 1 V+, 2 V-, 3 V-

## DESD5V0S1BA-7
designator D?
Diode TVS 5V Reverse Standoff 14V Clamp SOD323; Capacitance @ 1MHz: 35pF; Part Number: DESD5V0S1BA-7; Distributor: *; Distributor Part Number: *; Operating Temperature: -65C ~ 150C
footprint DESD5V0S1BA (DESD5V0S1BA SOD323)
pins: 1, 2

## DEV-16402
designator U?
SparkFun DEV-16402 MicroMod Teensy Processor, 22x22 mm pluggable processor module, NXP i.MX RT1062 Cortex-M7 @ 600 MHz, 16 MB Flash, 1 MB RAM, MicroMod M.2 edge connector, 3.3 V system.; Processor Speed: 600MHz; Flash Memory: 16MB; RAM: 1MB; Part Number: DEV-16402; Distributor: Digikey; Distributor Part Number: 1568-16402-ND
footprint DEV-16402 (SparkFun MicroMod Teensy Processor)
part A pins: 1 GND, 2 3V3, 4 3V3_EN (in), 7 GND (oc), 9 USB_VIN, 33 GND, 36 GND, 39 GND, 45 GND, 49 BATT_VIN, 74 3V3, 75 GND
part B pins: 3 USB_D+ (io), 5 USB_D- (io), 6 RESET (oc), 8 T27 (io), 10 T4 (io), 11 BOOT (oc), 12 T18 (io), 13 NC, 14 T19 (io), 15 NC, 16 T29 (io), 17 T1 (io), 18 T5 (io), 19 T0 (io), 20 T16 (io), 21 NC, 22 T17 (io), 23 NC, 32 T3 (io), 34 T14 (io), 35 USBHOST_D+ (io), 37 USBHOST_D- (io), 38 T15 (io), 40 T40 (io), 41 T30 (io), 42 T41 (io), 43 T31 (io), 44 T42 (io), 46 T43 (io), 47 T2 (io), 48 T44 (io), 50 T21 (io), 51 T25 (io), 52 T20 (io), 53 T24 (io), 54 T8 (io), 55 T10 (io), 56 T7 (io), 57 T13 (io), 58 T23 (io), 59 T11 (io), 60 T36 (io), 61 T12 (io), 62 T37 (io), 63 T33 (io), 64 T35 (io), 65 T32 (io), 66 T34 (io), 67 T26 (io), 68 T38 (io), 69 T9 (io), 70 T39 (io), 71 T6 (io), 72 NC, 73 T45 (io)

## DF63-2P-3.96DS
designator J?
Connector through hole, right angle 2 position 3.96mm,; Manufacturer Part Number: DF63-2P-3.96DS; Manufacutrer: Hirose; Voltage Rating: 630V; Number of Positions: 2; Pin Current Rating: 15A; Operating Temperature: -50°C~105°C
footprint DF63-2P-3.96DS (Conn Wire to Board HDR 4 POS 3.96mm Solder RA Thru-Hole 2 Terminal 1 Port Bag)
pins: 1, 2

## DF63-4P-3.96DS
designator J?
Connector through hole, right angle 4 position 3.96mm,; Manufacturer Part Number: DF63-4P-3.96DS; Manufacutrer: Hirose; Voltage Rating: 630V; Number of Positions: 4; Pin Current Rating: 15A; Operating Temperature: -50°C~105°C
footprint DF63-4P-3.96DS (Conn Wire to Board HDR 4 POS 3.96mm Solder RA Thru-Hole 4 Terminal 1 Port Bag)
pins: 1, 2, 3, 4

## DF63-6P-3.96DS
designator J?
Connector through hole, right angle 6 position 3.96mm,; Manufacturer Part Number: DF63-6P-3.96DS; Manufacutrer: Hirose; Voltage Rating: 630V; Number of Positions: 6; Pin Current Rating: 15A; Operating Temperature: -50°C~105°C
footprint DF63-6P-3.96DS (Connector Header Through Hole, Right Angle 6 position 0.156" (3.96mm))
pins: 1, 2, 3, 4, 5, 6

## DF63M-3P-3.96DS
designator J?
Connector Header Through Hole, Right Angle 3 position 0.156" (3.96mm); Number of Positions: 3; Current Rating: 12A; Voltage Rating: 630V; Part Number: DF63M-3P-3.96DS; Number of Rows: 1
footprint DF63M-3P-3.96DS (Connector Header Through Hole, Right Angle 3 position 0.156" (3.96mm))
pins: 1, 2, 3

## DLW21SN261XQ2L
designator L?
Part Number: DLW21SN261XQ2L; Distributor: Digikey; Distributor Part Number: *
footprint DLW21SN261XQ2L (Common Mode Chokes / Filters 260 OHM 25%)
pins: 1, 2, 3, 4

## DM3CS-SF
designator U?
10 (8 + 2) Position Card Connector Secure Digital - microSD™ Surface Mount, Right Angle Gold; Part Number: DM3CS-SF; Distributor: Digikey; Distributor Part Number: HR1972CT-ND
footprint DM3CS-SF (microSD card SMT)
pins: 1 DAT2, 2 CD/DAT3, 3 CMD, 4 VDD, 5 CLK, 6 VSS, 7 DAT0, 8 DAT1, 9 CD_SW, S1 GND, S2 GND, S3 GND, S5 GND

## DQS1-12-S12-S
designator U?
12 Vdc, 0.084 A, 1 W, 12 Vdc Input Range; Voltage - Input (Min): 10.8V; Voltage - Input (Max): 13.2; Voltage - Output 1: 12V; Power (W): 1W; Isolation Voltage: 1kV; Part Number: DQS1-12-S12-S; ComponentLink1Description: Datasheet; ComponentLink1URL: https://www.belfuse.com/media/datasheets/products/power-supplies/DQS1-S.pdf
footprint DQS1-12-S12-S (DC-DC ISOLATED, 1W, 10.8~13.2 VD)
pins: 1 VIN-, 2 VIN+, 3 VOUT-, 4 VOUT+
text: ISOLATION

## DRV8313PWPR
designator U?
Triple H Bridge Driver. 2.4A Peak. 8V~60V.; Input Voltage: 8V ~ 60V; PWM Range: 0-250kHz; Part Number: DRV8313PWPR; Distributor Part Number: 296-40072-1-ND; Maximum DC Current: 2.4A; Operating Temperature: -40°C ~ 150°C (TJ)
footprint TSSOP-28 POWERPAD (Texas instruments 28-Pin HTSSOP with PowerPad)
pins: 1 CPL, 2 CPH, 3 VCP, 4 VM, 5 OUT1, 6 PGND, 7 PGND, 8 OUT2, 9 OUT3, 10 PGND, 11 VM, 12 COMPP, 13 COMPN, 14 GND, 15 V3P3, 16 ~{RESET}, 17 ~{SLEEP}, 18 ~{FAULT}, 19 ~{COMPO}, 20 GND, 21 NC, 22 EN3, 23 IN3, 24 EN2, 25 IN2, 26 EN1, 27 IN1, 28 GND, 29 PAD

## DRV8841PWPR
designator U?
Dual H-Bridge Driver, 2.5A 8.2V~42V; On resistance: 200mOhm; Part Number: DRV8841PWPR; Distributor: JLCPCB; Distributor Part Number: C36542; Operating Temperature: -40C ~ 85C; Max DC Current: 2.5A; Input Voltage: 8.2V~42V
footprint TSSOP-28 POWERPAD (Texas instruments 28-Pin HTSSOP with PowerPad)
pins: 1 CP1, 2 CP2, 3 VCP, 4 VMA, 5 AOUT1, 6 ISENA, 7 AOUT2, 8 BOUT2, 9 ISENB, 10 BOUT1, 11 VMB, 12 AVREF, 13 BVREF, 14 GND, 15 V3P3OUT, 16 nRESET, 17 nSLEEP, 18 nFAULT, 19 DECAY, 20 AIN2, 21 AIN1, 22 BIN1, 23 BIN2, 24 AI0, 25 AI1, 26 BI0, 27 BI1, 28 GND, 29 PAD

## DT13-2P
designator J?
PCB Header, Vertical, PCB Mount Header, Contacts 2, Gray, Nickel, DT Series | TE Connectivity DT13-2P; Rows: 1; Positions: 2; Max Current: 13A; Manufacturer Part Number: DT13-2P; Distributor Part Number: *
footprint DT13-2P
pins: 1, 2

## DT13-4P
designator J?
DT13 Series 4.44mm Pitch 4 Way 2 Row Right Angle PCB Header Solder Termination | TE Connectivity DT13-4P; Rows: 2; Positions: 4; Max Current: 13A; Manufacturer Part Number: DT13-4P; Distributor Part Number: *
footprint DT13-4P (DT13 Series 4.44mm Pitch 4 Way 2 Row Right Angle PCB Header Solder Termination)
pins: 1, 2, 3, 4

## ECWFG2J105P1
designator C?  Capacitance: 1uF  Voltage Rating: 630VDC  Manufacturer Part Number: ECWFG2J105P1
Film Capacitors 630VDC 1.0uF 5% ST LEAD AEC-Q200; Distributor Part Number: *; Tolerance: 5%; Qualification: AEC-Q200
footprint ECWFG2J105P1 (1F Film Capacitor 141V 630V Polypropylene (PP), Metallized Radial)
pins: 1, 2

## EEHZS1H271UP
designator C?  Voltage Rating: 63V  Capacitance: 270uF  Manufacturer Part Number: EEHZS1H271UP
270 µF 50 V Aluminum - Polymer Capacitors Radial, Can - SMD 13mOhm 4000 Hrs @ 125°C
footprint EEHZS1H271UP (270 µF 50 V Aluminum - Polymer Capacitors Radial, Can - SMD 13mOhm 4000 Hrs @ 125°C)
pins: 1, 2

## EMZR500ARA101MF80G
designator C?  Voltage Rating: 50V  Capacitance: 100uF  (hidden comment: EMZR500ARA101MF80G)
100 µF 50 V Aluminum Electrolytic Capacitors Radial, Can - SMD 340mOhm @ 100kHz 2000 Hrs @ 105°C; Distributor: Digikey; Distributor Part Number: 565-EMZR500ARA101MF80GCT-ND; Manufacturer Part Number: EMZR500ARA101MF80G
footprint EMZR500ARA101MF80G (6.6mm Radial Capacitor)
pins: 1, 2

## ERJ-B3CFR02V
designator R?  Resistance: 20m
Res Thick Film 0508 20m Ohm 1% 1/2W 0ppm/°C to 300ppm/°C Molded SMD Punched Paper T/R; Manufacturer Part Number: ERJ-B3CFR02V; Power Rating: 500mW; Tolerance: 1%; Package: 0508
footprint RESC0508REVERSED
pins: 1, 2

## ESD9B5.0ST5G
designator D?  (value not drawn)
TVS Diode 5VWM 1A, 12.5V@1A Ipp; Voltage - Reverse Standoff (Max): 5V; Voltage - Breakdown: 5.8V; Part Number: ESD9B5.0ST5G; Distributor: Digikey; Distributor part Number: ESD9B5.0ST5G; Operating Temperature: -55°C ~ 150°C (TJ)
footprint sod-923 (SOD-923 Onsemi Footprint)
pins: 1, 2

## EXG.0B.302.HLN
designator J?
Connector Header, 2 Position Right Angle Circular IP50 UL94 V-0; Current Rating (Amps): 4.5A; Part Number: EXG.0B.302.HLN; Distributor: Digikey; Distributor Part Number: EXG.0B.302.HLN; Operating Temperature: -55°C ~ 250°C
footprint EXG.0B.302.HLN
pins: 1, 2, SH1, SH2, SH3, SH4

## FRBC1206
designator FB?  Manufacturer Part Number: 74279221100  (hidden comment: *)
Ferrite Bead 1206 (3216 Metric); Distributor Part Number: *
footprint FRBC1206
pins: 1, 2

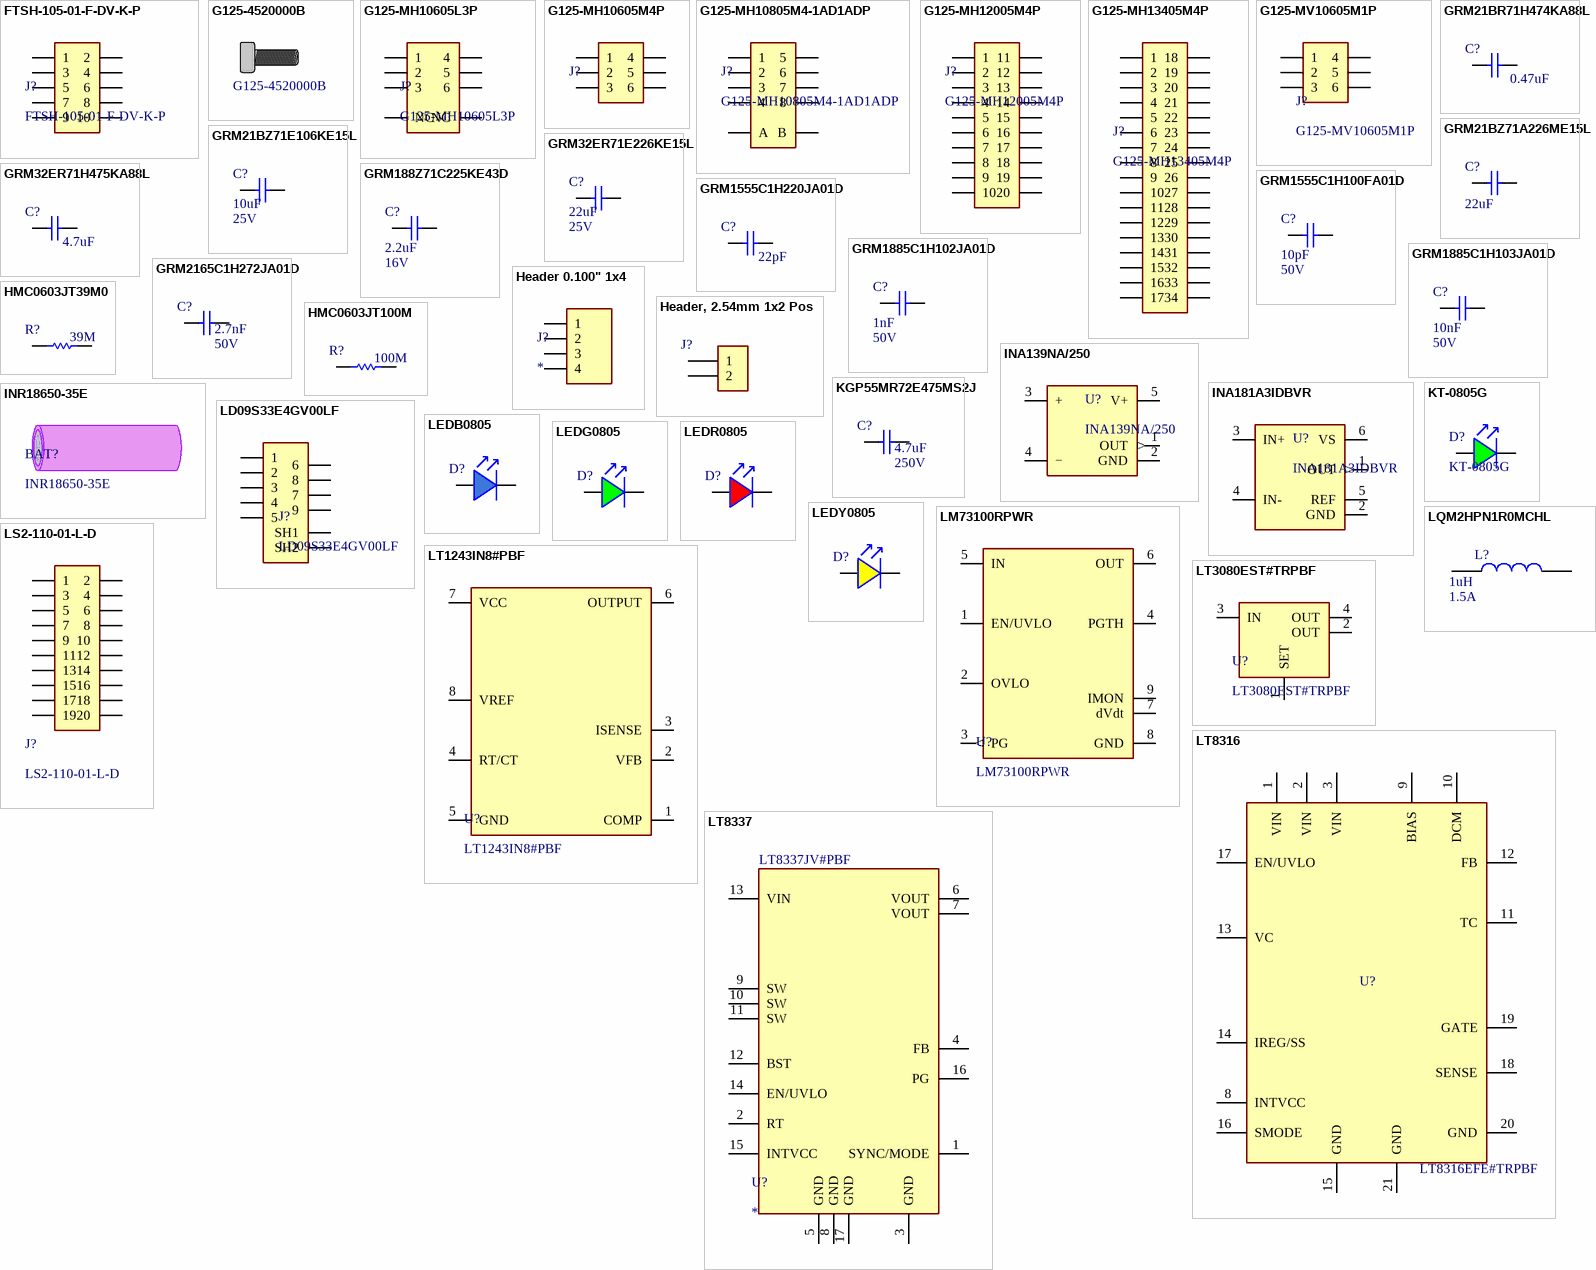
[diagram p5: symbols FTSH-105-01-F-DV-K-P to LT8337]

## FTSH-105-01-F-DV-K-P
designator J?
Connector Header Surface Mount 10 position 0.050" (1.27mm); Number of Positions: 10; Current Rating: 3.4A; Part Number: FTSH-105-01-F-DV-K-P; Distributor: Digikey; Distributor Part Number: SAM8797-ND; Number of Rows: 2; Operating Temperature: -55°C ~ 125°C
footprint FTSH-105-01-F-DV-K-P-TR (0.050" Surface Mount Header)
pins: 1, 2, 3, 4, 5, 6, 7, 8, 9, 10

## G125-4520000B
designator MECH?
Harwin Gecko M2 board mount Screw-Lok Bolt; Part Number: G125-4520000B; Distributor: Digikey; Distributor Part Number: 952-G125-4520000B-ND
footprint G125-4520000B (M2 Bolt Gecko Screwlok)

## G125-MH10605L3P
designator J?
Connector Header Through Hole 6 Position 1.25mm Latch Lock; Current Rating: 2A; Voltage Rating: 250V; Number of Positions: 6; Part Number: G125-MH10605L3P; Distributor: *; Distributor Part Number: *; Operating Temperature: -65°C ~ 150°C; Number of Rows: 2
footprint G125-MH10605L3P (Harwin Gecko 6 Pin Right Angle Latch)
pins: 1, 2, 3, 4, 5, 6, NC1 NC, NC2 NC

## G125-MH10605M4P
designator J?  (value not drawn)
Connector Header Through Hole, Right Angle 6 position 0.049" (1.25mm); Manufacturer: Harwin; Temperature Rating: -65°C ~ 150°C; Current Rating: 2A; Voltage Rating: 450V; Number of Positions: 6; Part number: G125-MH10605M4P; Distributor Part Number: 952-G125-MH10605M4P-ND; Distributor: Digikey; Number of Rows: 2
footprint G125-MH10605M4P
pins: 1, 2, 3, 4, 5, 6

## G125-MH10805M4-1AD1ADP
designator J?
Connector Header Through Hole, Right Angle 10 (8 + 2 Power) position 0.049" (1.25mm); Voltage Rating: 450V; Current Rating (Power): 10A; Current Rating (Signal): 2A; Number of Positions (Signal): 8; Part Number: G125-MH10805M4-1AD1ADP; Distributor: Digikey; Distributor Part Number: 952-G125-MH10805M4-1AD1ADP-ND; Operating Temperature: -65°C ~ 150°C; Number of Positions (Power): 2A
footprint G125-MH10805M4-1AD1ADP (Harwin Gecko 8 Signal 2 P{ower)
pins: 1, 2, 3, 4, 5, 6, 7, 8, A, B

## G125-MH12005M4P
designator J?
Connector Header Through Hole, Right Angle 20 position 0.049" (1.25mm); Manufacturer: Harwin; Number of Positions: 20; Voltage Rating: 450V; Current Rating: 2A; Part Number: G125-MH12005M4P; Distributor: Digikey; Distributor Part Number: 952-G125-MH12005M4P-ND; Number of Rows: 2; Operating Temperature: -65°C ~ 150°C
footprint G125-MH12005M4P (Harwin Gecko 20pin Right Angle)
pins: 1, 2, 3, 4, 5, 6, 7, 8, 9, 10, 11, 12, 13, 14, 15, 16, 17, 18, 19, 20

## G125-MH13405M4P
designator J?
Connector Header Through Hole, Right Angle 34 position 0.049" (1.25mm); Voltage Rating: 450V; Current Rating: 2A; Number of Positions: 34; Part Number: G125-MH13405M4P; Distributor: *; Distributor Part Number: *; Operating Temperature: -65°C ~ 150°C; Number of Rows: 2
footprint G125-MH13405M4P (Harwin Gecko 34pin Right Angle)
pins: 1, 2, 3, 4, 5, 6, 7, 8, 9, 10, 11, 12, 13, 14, 15, 16, 17, 18, 19, 20, 21, 22, 23, 24, 25, 26, 27, 28, 29, 30, 31, 32, 33, 34

## G125-MV10605M1P
designator J?
Connector Header Through Hole 6 Position 1.25mm Screw Lock; Manufacturer: Harwin; Number of Row: 2; Number of Positions: 3; Voltage Rating: 450V; Operating Temperature: -65C ~ 150C
footprint G125-MV10605M1P (Harwin Gecko 6 Pin)
pins: 1, 2, 3, 4, 5, 6

## GRM21BR71H474KA88L
designator C?  Capacitance: 0.47uF  (hidden comment: GRM21BR71H474KA88L)
0.47 µF ±10% 50V Ceramic Capacitor X7R 0805 (2012 Metric); Part Number: GRM21BR71H474KA88L; Distributor Part Number: 490-3328-1-ND; Tolerance: 10%; Case Code: 0805; Distributor: Digikey; Voltage Rating: 50V
footprint CAPC0805X060 (Chip Capacitor, 2-Leads, Body 1.00x0.50mm, IPC Medium Density)
footprint CAPC0805X085 (Chip Resistor, 2-Leads, Body 2.00x1.25mm, IPC Medium Density)
footprint CAPC0805X125 (Chip Resistor, 2-Leads, Body 2.00x1.25mm, IPC Medium Density)
footprint CAPC0805X135 (Chip Capacitor, 2-Leads, Body 1.00x0.50mm, IPC Medium Density)
pins: 1, 2

## GRM21BZ71A226ME15L
designator C?  Capacitance: 22uF  (hidden comment: GRM21BZ71A226ME15L)
22 µF ±20% 10V Ceramic Capacitor X7R 0805 (2012 Metric); Tolerance: 10%; Part Number: GRM21BZ71A226ME15L; Distributor Part Number: 490-GRM21BZ71A226ME15LCT-ND; Case Code: 0805; Distributor: Digikey; Voltage Rating: 10V
footprint CAPC0805X060 (Chip Capacitor, 2-Leads, Body 1.00x0.50mm, IPC Medium Density)
footprint CAPC0805X085 (Chip Resistor, 2-Leads, Body 2.00x1.25mm, IPC Medium Density)
footprint CAPC0805X125 (Chip Resistor, 2-Leads, Body 2.00x1.25mm, IPC Medium Density)
footprint CAPC0805X135 (Chip Capacitor, 2-Leads, Body 1.00x0.50mm, IPC Medium Density)
pins: 1, 2

## GRM21BZ71E106KE15L
designator C?  Voltage Rating: 25V  Capacitance: 10uF  (hidden comment: GRM21BZ71E106KE15L)
10uF ±10% 25V Ceramic Capacitor X7R 0805 (2012 Metric); Manufacturer Part Number: GRM21BZ71E106KE15L; Distributor Part Number: 490-GRM21BZ71E106KE15LCT-ND; Tolerance: 10%; Case Code: 0805; Distributor: Digikey
footprint CAPC0805X060 (Chip Capacitor, 2-Leads, Body 1.00x0.50mm, IPC Medium Density)
footprint CAPC0805X085 (Chip Resistor, 2-Leads, Body 2.00x1.25mm, IPC Medium Density)
footprint CAPC0805X125 (Chip Resistor, 2-Leads, Body 2.00x1.25mm, IPC Medium Density)
footprint CAPC0805X135 (Chip Capacitor, 2-Leads, Body 1.00x0.50mm, IPC Medium Density)
pins: 1, 2

## GRM32ER71E226KE15L
designator C?  Voltage Rating: 25V  Capacitance: 22uF  (hidden comment: GRM32ER71E226KE15L)
22uF 25V X7R ±10% 1210 Multilayer Ceramic Capacitors MLCC; Part Number: GRM32ER71E226KE15L; Distributor Part Number: C21397; Tolerance: 10%; Case Code: 1210; Distributor: JLCPCB
footprint CAPC1210X090 (1210 Ceramic Capacitor)
footprint CAPC1210X115 (1210 Ceramic Capacitor)
footprint CAPC1210X140 (1210 Ceramic Capacitor)
footprint CAPC1210X170 (1210 Ceramic Capacitor)
footprint CAPC1210X190 (1210 Ceramic Capacitor)
pins: 1, 2

## GRM32ER71H475KA88L
designator C?  Capacitance: 4.7uF  (hidden comment: GRM32ER71H475KA88L)
4.7 µF ±10% 50V Ceramic Capacitor X7R 1210 (3225 Metric); Part Number: GRM32ER71H475KA88L; Distributor Part Number: 490-1864-1-ND; Tolerance: 10%; Case Code: 1210; Distributor: Digikey; Voltage Rating: 50V
footprint CAPC1210X090 (1210 Ceramic Capacitor)
footprint CAPC1210X115 (1210 Ceramic Capacitor)
footprint CAPC1210X140 (1210 Ceramic Capacitor)
footprint CAPC1210X170 (1210 Ceramic Capacitor)
footprint CAPC1210X190 (1210 Ceramic Capacitor)
pins: 1, 2

## GRM188Z71C225KE43D
designator C?  Voltage Rating: 16V  Capacitance: 2.2uF  (hidden comment: GRM188Z71C225KE43D)
2.2 µF ±10% 16V Ceramic Capacitor X7R 0603 (1608 Metric); Part Number: GRM188Z71C225KE43D; Tolerance: 10%; Distributor Part number: 490-GRM188Z71C225KE43DCT-ND; Case Code: 0603; Distributor: Digikey; Dielectric: X7R
footprint CAPC0603X040 (Chip Capacitor, 2-Leads, Body 1.60x0.80mm, IPC Medium Density)
footprint CAPC0603X060 (Chip Capacitor, 2-Leads, Body 1.60x0.80mm, IPC Medium Density)
footprint CAPC0603X070 (Chip Capacitor, 2-Leads, Body 1.60x0.80mm, IPC Medium Density)
footprint CAPC0603X080 (Chip Capacitor, 2-Leads, Body 1.60x0.80mm, IPC Medium Density)
footprint CAPC0603X090 (Chip Capacitor, 2-Leads, Body 1.60x0.80mm, IPC Medium Density)
pins: 1, 2

## GRM1555C1H100FA01D
designator C?  Voltage Rating: 50V  Capacitance: 10pF  (hidden comment: GRM1555C1H100FA01D)
10 pF ±1% 50V Ceramic Capacitor C0G, NP0 0402 (1005 Metric); Manufacturer: Murata; Part Number: GRM1555C1H100FA01D; Tolerance: 1%; Distributor Part Number: 490-6186-1-ND; Case Code: 0402; Distributor: Digikey; Dielectric: C0G
footprint CAPC0402X020 (Chip Capacitor, 2-Leads, Body 1.00x0.50mm, IPC Medium Density)
footprint CAPC0402X045
pins: 1, 2

## GRM1555C1H220JA01D
designator C?  Capacitance: 22pF  (hidden comment: GRM1555C1H220JA01D)
22 pF ±5% 50V Ceramic Capacitor C0G, NP0 0402 (1005 Metric); Manufacturer: Murata; Part Number: GRM1555C1H220JA01D; Tolerance: 5%; Distributor Part Number: 490-5868-1-ND; Case Code: 0402; Distributor: Digikey; Dielectric: C0G; Voltage Rating: 50V
footprint CAPC0402X020 (Chip Capacitor, 2-Leads, Body 1.00x0.50mm, IPC Medium Density)
footprint CAPC0402X045
pins: 1, 2

## GRM1885C1H102JA01D
designator C?  Voltage Rating: 50V  Capacitance: 1nF  (hidden comment: GRM1885C1H102JA01D)
1nF ±5% 50V Ceramic Capacitor C0G, NP0 0603 (1608 Metric); Part Number: GRM1885C1H102JA01D; Tolerance: 5%; Distributor Part number: 490-1451-1-ND; Case Code: 0603; Distributor: Digikey; Dielectric: C0G
footprint CAPC0603X040 (Chip Capacitor, 2-Leads, Body 1.60x0.80mm, IPC Medium Density)
footprint CAPC0603X060 (Chip Capacitor, 2-Leads, Body 1.60x0.80mm, IPC Medium Density)
footprint CAPC0603X070 (Chip Capacitor, 2-Leads, Body 1.60x0.80mm, IPC Medium Density)
footprint CAPC0603X080 (Chip Capacitor, 2-Leads, Body 1.60x0.80mm, IPC Medium Density)
footprint CAPC0603X090 (Chip Capacitor, 2-Leads, Body 1.60x0.80mm, IPC Medium Density)
pins: 1, 2

## GRM1885C1H103JA01D
designator C?  Voltage Rating: 50V  Capacitance: 10nF  (hidden comment: GRM1885C1H103JA01D)
10nF ±5% 50V Ceramic Capacitor C0G, NP0 0603 (1608 Metric); Manufacturer: Murata; Part Number: GRM1885C1H103JA01D; Tolerance: 5%; Distributor Part number: 490-9666-1-ND; Case Code: 0603; Distributor: Digikey; Dielectric: C0G
footprint CAPC0603X040 (Chip Capacitor, 2-Leads, Body 1.60x0.80mm, IPC Medium Density)
footprint CAPC0603X060 (Chip Capacitor, 2-Leads, Body 1.60x0.80mm, IPC Medium Density)
footprint CAPC0603X070 (Chip Capacitor, 2-Leads, Body 1.60x0.80mm, IPC Medium Density)
footprint CAPC0603X080 (Chip Capacitor, 2-Leads, Body 1.60x0.80mm, IPC Medium Density)
footprint CAPC0603X090 (Chip Capacitor, 2-Leads, Body 1.60x0.80mm, IPC Medium Density)
pins: 1, 2

## GRM2165C1H272JA01D
designator C?  Voltage Rating: 50V  Capacitance: 2.7nF  (hidden comment: GRM2165C1H272JA01D)
2.7nF ±5% 50V Ceramic Capacitor C0G, NP0 0805 (2012 Metric); Manufacturer Part Number: GRM2165C1H272JA01D; Distributor Part Number: 490-1630-1-ND; Tolerance: 5%; Case Code: 0805; Distributor: Digikey
footprint CAPC0805X060 (Chip Capacitor, 2-Leads, Body 1.00x0.50mm, IPC Medium Density)
footprint CAPC0805X085 (Chip Resistor, 2-Leads, Body 2.00x1.25mm, IPC Medium Density)
footprint CAPC0805X125 (Chip Resistor, 2-Leads, Body 2.00x1.25mm, IPC Medium Density)
footprint CAPC0805X135 (Chip Capacitor, 2-Leads, Body 1.00x0.50mm, IPC Medium Density)
pins: 1, 2

## Header 0.100" 1x4
designator J?
Generic 0.100" Header 1x4; Rows: 1; Contacts: 4
footprint GENERIC 0.100" HEADER 1x4 (Generic 1x4 0.1Inch Header)
pins: 1, 2, 3, 4

## Header, 2.54mm 1x2 Pos
designator J?
Generic 2.54mm, 1x2 header; Manufacturer Part Number: 61300211121; Rows: 1; Positions: 2
footprint Header 2.54mm 1x2 (2 pins, 1 row, 2.54mm spacing)
pins: 1, 2

## HMC0603JT39M0
designator R?  Resistance: 39M  (hidden comment: HMC0603JT39M0)
39 MOhms ±5% 0.1W, 1/10W Chip Resistor 0603 (1608 Metric) Thick Film; Tolerance: 1%; Part Number: HMC0603JT39M0; Distributor: Digikey; Distributor Part Number: HMC0603JT39M0CT-ND; Case Code: 0603
footprint RESC0603 (Chip Resistor, 2-Leads, Body 1.60x0.80mm, IPC Medium Density)
pins: 1, 2

## HMC0603JT100M
designator R?  Resistance: 100M  (hidden comment: HMC0603JT100M)
100 MOhms ±5% 0.1W, 1/10W Chip Resistor 0603 (1608 Metric) Thick Film; Tolerance: 1%; Part Number: HMC0603JT100M; Distributor: Digikey; Distributor Part Number: HMC0603JT100MCT-ND; Case Code: 0603
footprint RESC0603 (Chip Resistor, 2-Leads, Body 1.60x0.80mm, IPC Medium Density)
pins: 1, 2

## INA139NA/250
designator U?
40V Current Sense Amplifier 1 Circuit 8-MSOP; Accuracy: 0.5%; Distributor: Digikey; Distributor Part Number: INA139NA/250CT-ND; Operating Temperature: -40°C ~ 125°C; Part Number: INA139NA/250
footprint SOT23-5 IC (SOT23-5)
pins: 1 OUT (out), 2 GND, 3 +, 4 −, 5 V+

## INA181A3IDBVR
designator U?
Current Sense Amplifier Bidirectional 100V/V; Accuracy: 0.5%; Distributor: Digikey; Distributor Part Number: 296-47658-1-ND; Operating Temperature: -40°C ~ 125°C; Part Number: INA181A3IDBVR; Gain: 100V/V
footprint SOT23-6 IC (SOT23-6)
pins: 1 OUT (out), 2 GND, 3 IN+, 4 IN-, 5 REF, 6 VS

## INR18650-35E
designator BAT?  (mechanical)
Samsung 3500mAh 18650 Li-Ion battery; Continuous Current: 3.5A; Part Number: INR18650-35E; Distributor Part Number: SB2632; Distributor: Jaycar; Capacity: 3500mAh; Operating Temperature: 0°C to 50°C